# EAGLE library part ATMEGA_3209_4809_48PIN (library miller)
ATmega 3209/4809 48-pin package
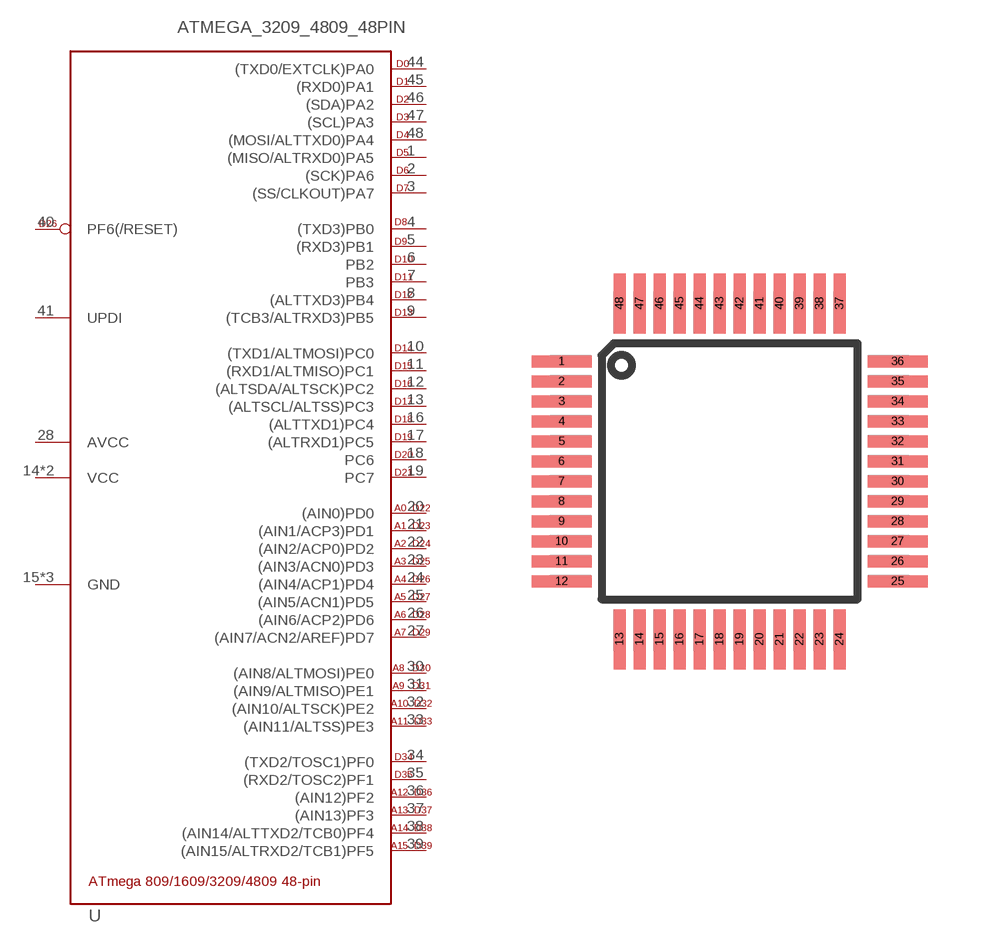
[diagram p42: symbol with the pads of TQFP48_ATMEL_MICROCHIP; footprint TQFP48_ATMEL_MICROCHIP]

Designator prefix -

## ATMEGA_3209_4809_48PINTQFP  [TQFP48_ATMEL_MICROCHIP]
1  (MISO/ALTRXD0)PA5
2  (SCK)PA6
3  (SS/CLKOUT)PA7
4  (TXD3)PB0
5  (RXD3)PB1
6  PB2
7  PB3
8  (ALTTXD3)PB4
9  (TCB3/ALTRXD3)PB5
10  (TXD1/ALTMOSI)PC0
11  (RXD1/ALTMISO)PC1
12  (ALTSDA/ALTSCK)PC2
13  (ALTSCL/ALTSS)PC3
14  VCC
15  GND
16  (ALTTXD1)PC4
17  (ALTRXD1)PC5
18  PC6
19  PC7
20  (AIN0)PD0
21  (AIN1/ACP3)PD1
22  (AIN2/ACP0)PD2
23  (AIN3/ACN0)PD3
24  (AIN4/ACP1)PD4
25  (AIN5/ACN1)PD5
26  (AIN6/ACP2)PD6
27  (AIN7/ACN2/AREF)PD7
28  AVCC
29  GND
30  (AIN8/ALTMOSI)PE0
31  (AIN9/ALTMISO)PE1
32  (AIN10/ALTSCK)PE2
33  (AIN11/ALTSS)PE3
34  (TXD2/TOSC1)PF0
35  (RXD2/TOSC2)PF1
36  (AIN12)PF2
37  (AIN13)PF3
38  (AIN14/ALTTXD2/TCB0)PF4
39  (AIN15/ALTRXD2/TCB1)PF5
40  PF6(/RESET)
41  UPDI
42  VCC
43  GND
44  (TXD0/EXTCLK)PA0
45  (RXD0)PA1
46  (SDA)PA2
47  (SCL)PA3
48  (MOSI/ALTTXD0)PA4

## Footprint TQFP48_ATMEL_MICROCHIP (pad centres in mm)
Twin Quad Flat Pack 48-pin pattern based on ATMEL/Microchip pattern for ATmega4808/4809.
smd 1.5 x 0.3: 1 -4.2,2.75; 2 -4.2,2.25; 3 -4.2,1.75; 4 -4.2,1.25; 5 -4.2,0.75; 6 -4.2,0.25; 7 -4.2,-0.25; 8 -4.2,-0.75; 9 -4.2,-1.25; 10 -4.2,-1.75; 11 -4.2,-2.25; 12 -4.2,-2.75; 25 4.2,-2.75; 26 4.2,-2.25; 27 4.2,-1.75; 28 4.2,-1.25; 29 4.2,-0.75; 30 4.2,-0.25; 31 4.2,0.25; 32 4.2,0.75; 33 4.2,1.25; 34 4.2,1.75; 35 4.2,2.25; 36 4.2,2.75
smd 0.3 x 1.5: 13 -2.75,-4.2; 14 -2.25,-4.2; 15 -1.75,-4.2; 16 -1.25,-4.2; 17 -0.75,-4.2; 18 -0.25,-4.2; 19 0.25,-4.2; 20 0.75,-4.2; 21 1.25,-4.2; 22 1.75,-4.2; 23 2.25,-4.2; 24 2.75,-4.2; 37 2.75,4.2; 38 2.25,4.2; 39 1.75,4.2; 40 1.25,4.2; 41 0.75,4.2; 42 0.25,4.2; 43 -0.25,4.2; 44 -0.75,4.2; 45 -1.25,4.2; 46 -1.75,4.2; 47 -2.25,4.2; 48 -2.75,4.2